# Altium schematic symbol library MICROSD.SchLib: 1 symbol
Pins are listed as number, name and electrical type; pins without a type are passive.

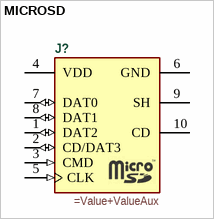
[diagram p0: symbol MICROSD]

## MICROSD
designator J?
=Description
pins: 1 DAT2 (io), 2 CD/DAT3 (io), 3 CMD (in), 4 VDD (power), 5 CLK (in), 6 GND (power), 7 DAT0 (io), 8 DAT1 (io), 9 SH, 10 CD